# EAGLE library part 685119136923 (library Wurth_Elektronik_Electromechanic_Input-Output_Connectors_rev16b)
WR-COM SMT Horizontal Mini HDMI, 19 pins=>Code : Con_I-O_COM_Mini-HDMI_685119136923 <http://katalog.we-online.de/media/images/eican/Con_I-O_COM_Mini-HDMI_685119136923_pf2.jpg> Details see: http://katalog.we-online.de/en/em/685_119_136_923 Created 2014-07-09, Karrer Zheng 2014 (C) Würth Elektronik
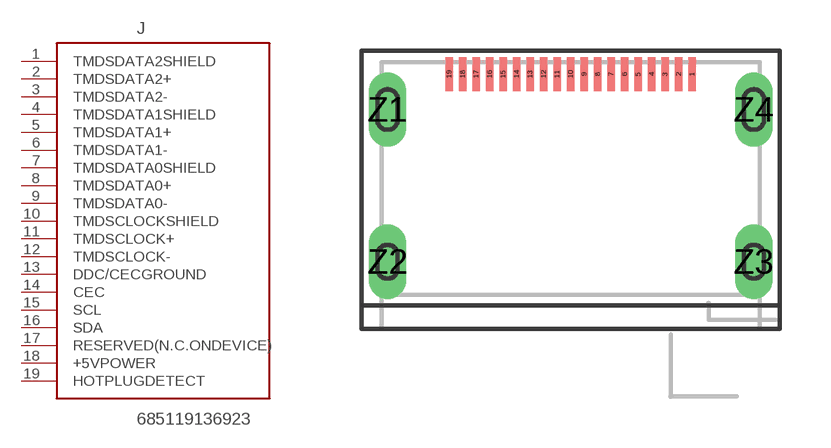
[diagram p78: symbol with the pads of 685119136923; footprint 685119136923]

Designator prefix J

## 685119136923  [685119136923]
1  TMDSDATA2SHIELD
2  TMDSDATA2+
3  TMDSDATA2-
4  TMDSDATA1SHIELD
5  TMDSDATA1+
6  TMDSDATA1-
7  TMDSDATA0SHIELD
8  TMDSDATA0+
9  TMDSDATA0-
10  TMDSCLOCKSHIELD
11  TMDSCLOCK+
12  TMDSCLOCK-
13  DDC/CECGROUND
14  CEC
15  SCL
16  SDA
17  RESERVED(N.C.ONDEVICE)
18  +5VPOWER
19  HOTPLUGDETECT

## Footprint 685119136923 (pad centres in mm)
WR-COM SMT Horizontal Mini HDMI, 19 pins
smd 0.23 x 1: 1 3.6,0; 2 3.2,0; 3 2.8,0; 4 2.4,0; 5 2,0; 6 1.6,0; 7 1.2,0; 8 0.8,0; 9 0.4,0; 10 0,0; 11 -0.4,0; 12 -0.8,0; 13 -1.2,0; 14 -1.6,0; 15 -2,0; 16 -2.4,0; 17 -2.8,0; 18 -3.2,0; 19 -3.6,0
drill 0.6 long: Z1 -5.425,-1.05; Z2 -5.425,-5.56; Z3 5.425,-5.56; Z4 5.425,-1.05